# Altium schematic symbol library AG.Sensors.SchLib: 1 symbol
Pins are listed as number, name and electrical type; pins without a type are passive.

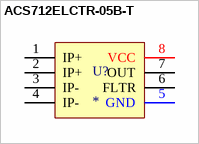
[diagram p0: symbol ACS712ELCTR-05B-T]

## ACS712ELCTR-05B-T
designator U?
SENSOR CURRENT HALL 5A AC/DC; Manufacturer Product No: ACS712ELCTR-05B-T; Manufacturer: Allegro MicroSystems; Supplier URL: https://www.digikey.com/en/products/detail/allegro-microsystems/ACS712ELCTR-05B-T/1284593; Supplier: DigiKey; Supplier Part No: 620-1189-1-ND; Package: 8-SOIC (0.154"", 3.90mm Width); Mounting Technology: SMT; Max Sensing Current: 5 A; Supplier Description: Current Sensor 5A 1 Channel Hall Effect, Open Loop Bidirectional 8-SOIC (0.154", 3.90mm Width)
pins: 1 IP+, 2 IP+, 3 IP-, 4 IP-, 5 GND, 6 FLTR, 7 OUT, 8 VCC